# Altium schematic symbol library Driver.SchLib: 1 symbol
Pins are listed as number, name and electrical type; pins without a type are passive.

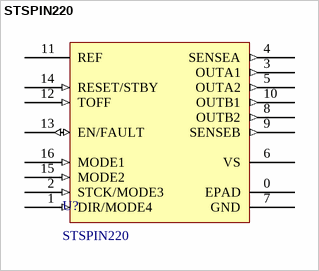
[diagram p0: symbol STSPIN220]

## STSPIN220
designator U?
VFQFPN 3X3 Step motor driver
footprint STSPIN220 (PQFN, 16-Leads, Body 3.00x3.00mm, Pitch 0.50mm, Thermal Pad 1.70x1.70mm, IPC Medium Density)
pins: 0 EPAD (power), 1 DIR/MODE4 (in), 2 STCK/MODE3 (in), 3 OUTA1 (out), 4 SENSEA (out), 5 OUTA2 (out), 6 VS (power), 7 GND (power), 8 OUTB2 (out), 9 SENSEB (out), 10 OUTB1 (out), 11 REF (power), 12 TOFF (in), 13 EN/FAULT (io), 14 RESET/STBY (in), 15 MODE2 (in), 16 MODE1 (in)